# Altium schematic symbol library 复合管OTL音频功放电路设计.SCHLIB: 8 symbols
Pins are listed as number, name and electrical type; pins without a type are passive.

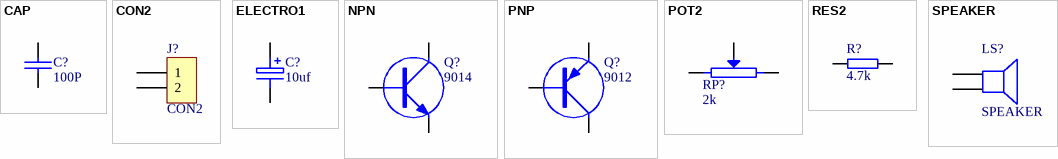
[diagram p0: symbols CAP to SPEAKER]

## CAP
designator C?, comment 100P
Capacitor
footprint RAD0.1
footprint RAD0.2
footprint R/C0805
footprint R/C1206
footprint R/C0805
pins: 1, 2

## CON2
designator J?
Connector
footprint SIP2
footprint 5.08-S201
pins: 1, 2

## ELECTRO1
designator C?, comment 10uf
Electrolytic Capacitor
footprint RB.1/.2
footprint RB.2/.4
pins: 1, 2

## NPN
designator Q?, comment 9014
footprint TO-92C
footprint TO-92D
footprint TO-39A
pins: B, C, E

## PNP
designator Q?, comment 9012
footprint TO-92C
pins: B, C, E

## POT2
designator RP?, comment 2k
Potentiometer
footprint VR9
footprint VR7
footprint RV09
footprint VR1
pins: 1, 2, 3

## RES2
designator R?, comment 4.7k
footprint AXIAL0.3
footprint AXIAL0.4
footprint AXIAL0.1
footprint AXIAL1.0
footprint R/C0805
footprint R/C0805
pins: 1, 2

## SPEAKER
designator LS?
footprint 5.08-S201
pins: 1, 2